# Altium schematic symbol library DIRECT_HOLE.SchLib: 1 symbol
Pins are listed as number, name and electrical type; pins without a type are passive.

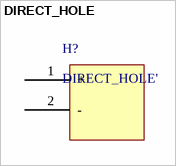
[diagram p0: symbol DIRECT_HOLE]

## DIRECT_HOLE
designator H?, comment DIRECT_HOLE'
footprint 50MIL HOLE
pins: 1 +, 2 -